# Altium schematic symbol library ADDRESS LED DISCRETE SERIAL RGB.SchLib: 1 symbol
Pins are listed as number, name and electrical type; pins without a type are passive.

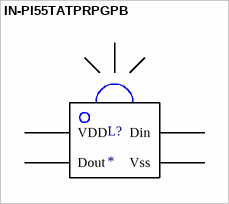
[diagram p0: symbol IN-PI55TATPRPGPB]

## IN-PI55TATPRPGPB
designator L?
PartNumber: IN-PI55TATPRPGPB; Manufacturer: Inolux; PartDescription: ADDRESS LED DISCRETE SERIAL RGB; Supplier 1: Digi-Key; Package Type: 4 SMT; Supplier Part Number 1: 1830-1204-1-ND
footprint IN-PI55TATPRPGPB
pins: 1 VDD, 2 Dout, 3 Vss, 4 Din